# Altium footprint library PCB - CHOKE - BOURNS DR331-513AE.PCBLIB: 1 footprints
Each footprint in its own frame and in the unit in brackets; x right, y up, seen from the top. Pads: shape width x height; smd on the part's side, far side on the other; paste and mask are expansions set on the pad; w line width, h text height; cw(c..) or ccw(c..) is an arc to the next point about the centre after c.
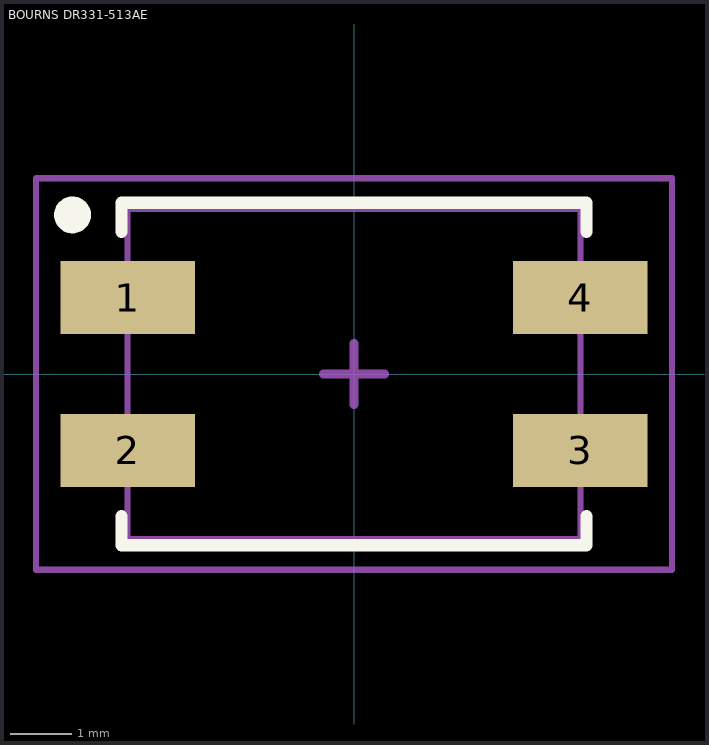
[diagram p0: the footprint, top view; thin cyan lines are the x and y axes]

## BOURNS DR331-513AE [mm] "Chip Choke, Body 7.30mm x 5.40mm, IPC Medium Density"
height 5
pads (4):
  rect 2.2x1.2 smd: 1(-3.7,1.25) 2(-3.7,-1.25) 3(3.7,-1.25) 4(3.7,1.25)
Top Overlay:
  circle w0.3: c-4.6,2.6 r0.15
  lines w0.2: -3.8,-2.325 -3.8,-2.8 3.8,-2.8 3.8,-2.325 ; -3.8,2.325 -3.8,2.8 3.8,2.8 3.8,2.325
Mechanical 13:
  lines w0.1: -3.7,-2.7 -3.7,2.7 3.7,2.7 3.7,-2.7 -3.7,-2.7
Mechanical 15:
  lines w0.1: -5.2,-3.2 5.2,-3.2 5.2,3.2 -5.2,3.2 -5.2,-3.2
  lines w0.15: -0.5,0 0.5,0 ; 0,-0.5 0,0.5
3D body "Bourns - DR331.step": height 5.3, standoff 0, extent -4.5,-2.7 4.5,2.7